# Altium footprint library EMBED_FOOT.PcbLib: 12 footprints
Each footprint in its own frame and in the unit in brackets; x right, y up, seen from the top. Pads: shape width x height; smd on the part's side, far side on the other; paste and mask are expansions set on the pad; w line width, h text height; cw(c..) or ccw(c..) is an arc to the next point about the centre after c.
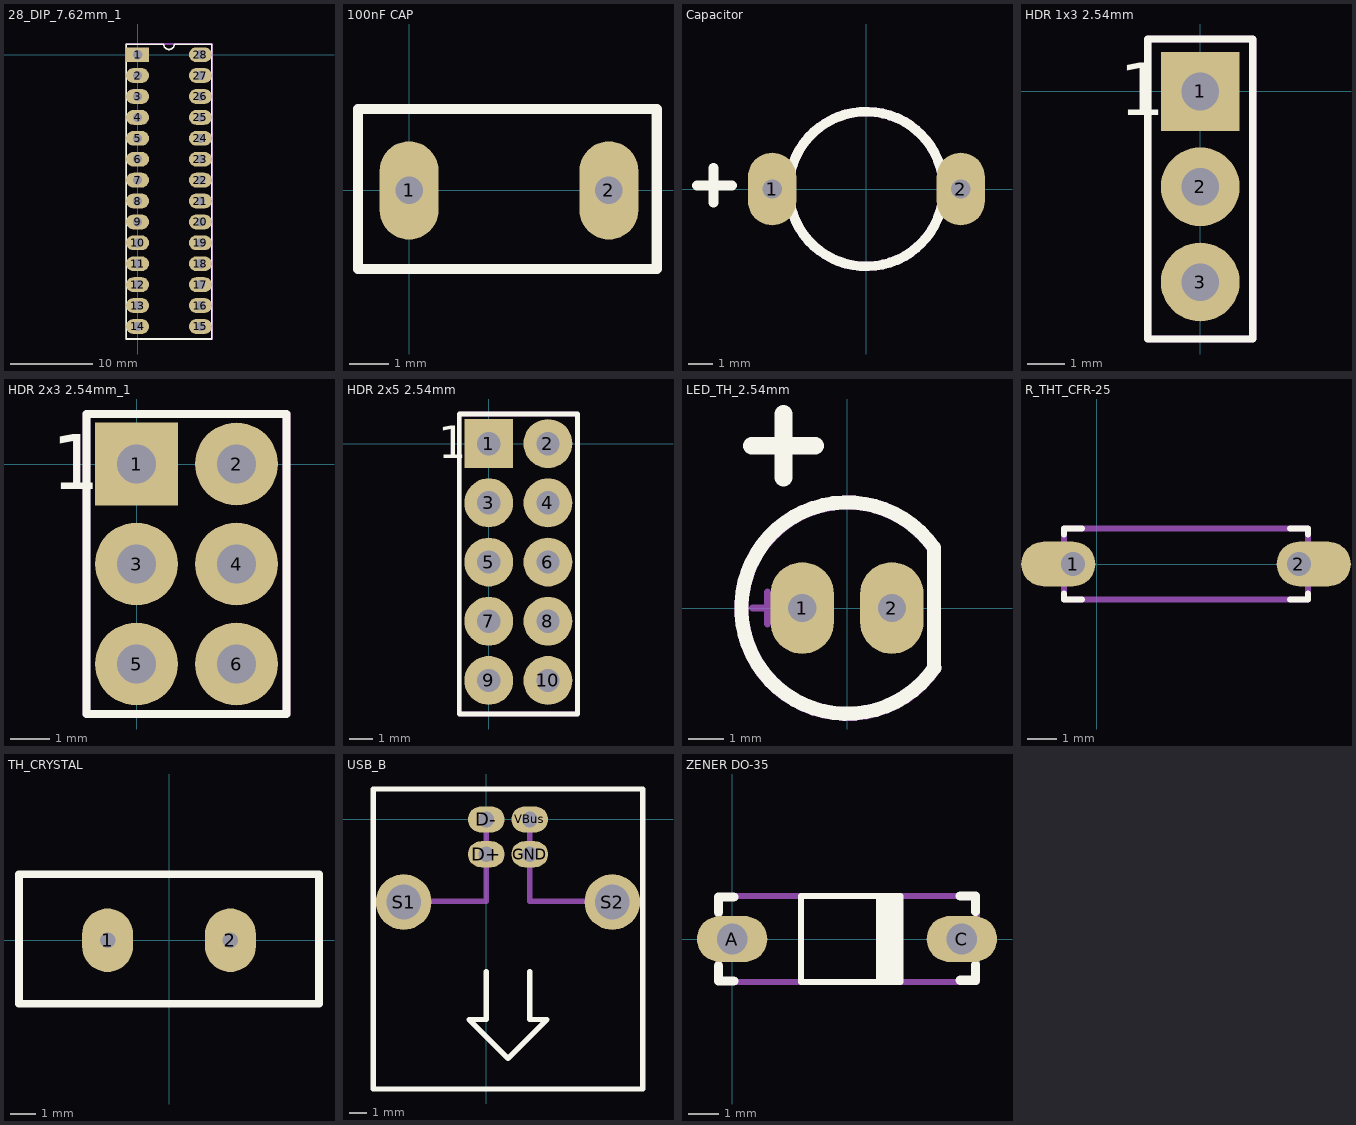
[diagram p0: the footprints below, top view; thin cyan lines are the x and y axes]

## 28_DIP_7.62mm_1 [mm]
pads (28):
  rect 2.8x1.8 hole 1.1: 1(0.01,-0.01)
  oval 2.8x1.8 hole 1.1: 2(0,-2.54) 3(0,-5.08) 4(0,-7.62) 5(0,-10.16) 6(0,-12.7) 7(0,-15.24) 8(0,-17.78) 9(0,-20.32) 10(0,-22.86) 11(0,-25.4) 12(0,-27.94) 13(0,-30.48) 14(0,-33.02) 15(7.62,-33.02) 16(7.62,-30.48) 17(7.62,-27.94) 18(7.62,-25.4) 19(7.62,-22.86) 20(7.62,-20.32) 21(7.62,-17.78) 22(7.62,-15.24) 23(7.62,-12.7) 24(7.62,-10.16) 25(7.62,-7.62) 26(7.62,-5.08) 27(7.62,-2.54) 28(7.62,0)
Top Overlay:
  lines w0.2: -1.39,-34.544 -1.39,1.27 3.175,1.27 ccw(c3.81,1.27) 4.445,1.27 9.01,1.27 9.01,-34.544 -1.39,-34.544
Mechanical 2:
  circle w0.5: c0.01,-0.01 r0.273
  lines w0.254: -1.39,-34.544 9.01,-34.544 9.01,1.29 -1.39,1.29 -1.39,-34.544
  text ".Designator" at 4,-16.325 h3
3D body "User Library-28 pin dip-1.step": height 7.55, standoff 1.33, extent 0,-34.941 7.874,1

## 100nF CAP [mm]
pads (2):
  oval 1.5x2.5 hole 0.7: 1(0,0) 2(5.08,0)
Top Overlay:
  lines w0.254: -1.3,-2 6.3,-2 6.3,2.075 -1.3,2.075 -1.3,-2
Mechanical 2:
  lines w0.254: -1.3,-2 6.275,-2 6.275,2.075 -1.3,2.075 -1.3,-2
  text ".Designator" at -0.5,-0.7 h2
3D body "c330c104j2h5ta91707301.stp": height 10.44, standoff -16.25, extent -1.03,-2.025 6.08,2.05

## Capacitor [mm]
pads (2):
  oval 2x3 hole 0.8: 1(-3.9,0) 2(3.9,0)
Top Overlay:
  circle w0.4: c-0.013,0 r3.2
  lines w0.4: -7.009,0.148 -5.561,0.148 ; -6.323,-0.564 -6.323,0.884
Mechanical 2:
  circle w0.4: c-0.013,0 r3.2
  text ".Designator" at -3.238,-0.838 h3.5
3D body: height 11, standoff 0, extent -3.2,-3.197 3.2,3.197

## HDR 1x3 2.54mm [mm]
pads (3):
  rect 2.1x2.1 hole 1: 1(0,0)
  round 2.1 hole 1: 2(0,-2.54) 3(0,-5.08)
Top Overlay:
  lines w0.2: -1.4,-6.6 1.4,-6.6 1.4,1.4 -1.4,1.4 -1.4,-6.6
  text "1" at -2.159,-0.635 h1.4
Mechanical 2:
  circle w0.5: c-0.508,0.508 r0.18
  lines w0.2: -1.4,-6.6 1.4,-6.6 1.4,1.4 -1.4,1.4 -1.4,-6.6
  text ".Designator" at 0.5,-5.7 h1
3D body "TSW-103-07-F-S.stp": height 8.39, standoff -2.53, extent -1.27,-6.477 1.27,1.27

## HDR 2x3 2.54mm_1 [mm]
pads (6):
  rect 2.1x2.1 hole 1: 1(0,0)
  round 2.1 hole 1: 2(2.54,0) 3(0,-2.54) 4(2.54,-2.54) 5(0,-5.08) 6(2.54,-5.08)
Top Overlay:
  lines w0.2: -1.27,-6.35 3.81,-6.35 3.81,1.27 -1.27,1.27 -1.27,-6.35
  text "1" at -2.159,-0.635 h1.4
Mechanical 2:
  circle w0.5: c-0.508,0.508 r0.18
  lines w0.2: -1.27,-6.35 3.81,-6.35 3.81,1.27 -1.27,1.27 -1.27,-6.35
  text ".Designator" at 1.778,-3.81 h1
3D body "TSW-102-23-T-T.stp": height 8.39, standoff -2.91, extent -1.27,-6.35 3.81,1.27

## HDR 2x5 2.54mm [mm]
pads (10):
  rect 2.1x2.1 hole 1: 1(0,0)
  round 2.1 hole 1: 2(2.54,0) 3(0,-2.54) 4(2.54,-2.54) 5(0,-5.08) 6(2.54,-5.08) 7(0,-7.62) 8(2.54,-7.62) 9(0,-10.16) 10(2.54,-10.16)
Top Overlay:
  lines w0.2: -1.27,-11.6 -1.27,1.27 3.81,1.27 3.81,-11.6 -1.27,-11.6
  text "1" at -2.159,-0.635 h1.4
Mechanical 2:
  circle w0.5: c-0.508,0.508 r0.18
  lines w0.2: -1.27,-11.6 -1.27,1.27 3.81,1.27 3.81,-11.6 -1.27,-11.6
  text ".Designator" at 1.778,-3.81 h1
3D body "TSW-102-23-T-T.stp": height 8.39, standoff -2.91, extent -1.27,-6.35 3.81,1.27
3D body "TSW-102-23-T-T.stp": height 8.39, standoff -2.91, extent -1.27,-11.43 3.81,-3.81

## LED_TH_2.54mm [mm]
pads (2):
  oval 1.8x2.6 hole 0.8: 1(-1.27,0) 2(1.27,0)
Top Overlay:
  lines w0.2: 2.481,-1.667 2.481,1.687 ccw(c-0.004,0.006) 2.49,-1.661
  lines w0.4: 2.462,-1.678 2.462,1.708 ccw(c0,0) 2.474,-1.69
  lines w0.5: -2.7,4.6 -0.9,4.6 ; -1.8,3.7 -1.8,5.5
Mechanical 2:
  lines w0.2: -2.675,0 -1.825,0 ; -2.25,-0.45 -2.25,0.45 ; -2.25,0 -2.25,0.45 ; 2.485,1.681 ccw(c0,0) 2.494,-1.667 ; -2.25,0.45 -2.25,0.45
  lines w0.4: 2.466,-1.684 2.466,1.702 ccw(c0.004,-0.006) 2.478,-1.696
  text ".Designator" at -1.6,-0.4 h1
3D body "User Library-LED-D5R.step": height 8.96, standoff -6.48, extent -3,-3 2.5,3

## PCBComponent_1 [mm]

## R_THT_CFR-25 [mm]
pads (2):
  oval 2.5x1.5 hole 0.8 copper offset -0.5,0: 1(-0.8,0)
  oval 2.5x1.5 hole 0.8 copper offset 0.5,0: 2(6.8,0)
Top Overlay:
  lines w0.2: -1.1,-1 -1.1,-1.2 -0.5,-1.2 ; -1.1,1 -1.1,1.2 -0.5,1.2 ; 6.5,-1.2 7.1,-1.2 7.1,-1 ; 6.5,1.2 7.1,1.2 7.1,1
Mechanical 2:
  lines w0.2: -1.1,-1.2 -1.1,1.2 7.1,1.2 7.1,-1.2 -1.1,-1.2
  text ".Designator" at 0.7,-0.4 h1
3D body: height 1.71, standoff -0.42, extent 4.1,-1.075 4.5,1.061
3D body "User Library-CFR-25 CFR50S (300mils)-2.STEP": height 1.9, standoff -3.38, extent -1.085,-1.2 7.085,1.2
3D body: height 1.71, standoff -0.42, extent 3.1,-1.075 3.5,1.061
3D body: height 1.71, standoff -0.42, extent 2.3,-1.075 2.7,1.061
3D body: height 1.71, standoff -0.42, extent 1.5,-1.075 1.9,1.061

## TH_CRYSTAL [mm]
pads (2):
  oval 2x2.5 hole 0.6: 1(-2.413,0) 2(2.413,0)
Top Overlay:
  lines w0.3: -5.9,-2.5 -5.9,2.4 -5.9,2.6 5.9,2.6 5.9,-2.5 -5.9,-2.5
Mechanical 2:
  text ".Designator" at -4.5,-0.7 h1.5
3D body "TH_Crystal_2pins.step": height 5.5, standoff -2, extent -5.675,-2.286 5.675,2.364

## USB_B [mm]
pads (6):
  oval 2.1x1.5 hole 0.9: D+(0,-2) D-(0,0) GND(2.5,-2) VBus(2.5,0)
  round 3.2 hole 2: S1(-4.75,-4.75) S2(7.25,-4.75)
Top Overlay:
  lines w0.3: 0,-8.75 0,-11.5 -1,-11.5 1.25,-13.75 3.5,-11.5 2.5,-11.5 2.5,-8.75 ; -6.5,-15.5 -6.5,1.5 -6.5,1.75 9,1.75 9,-15.5 -6.5,-15.5
Mechanical 2:
  lines w0.3: -4.77,-4.71 0,-4.71 0,-2 0,0 ; 2.5,-2 2.5,-4.71 ; 2.5,0 2.5,-4.71 ; 7.27,-4.71 2.5,-4.71
  text ".Designator" at -5.5,-9.25 h1.5
3D body "USB type-B female PCB.STEP": height 10.75, standoff -2.88, extent -6.2,-15.1 8.7,1.5

## ZENER DO-35 [mm]
pads (2):
  oval 2.3x1.5 hole 1: A(0,0) C(7.5,0)
Top Overlay:
  region: 5.5,1.4 5.5,-1.4 4.7,-1.4 4.7,1.4
  region: 4.3,1.4
  lines w0.2: 2.25,-1.4 2.25,1.4 5.5,1.4 5.5,-1.4 2.25,-1.4
  lines w0.3: -0.45,-0.875 -0.45,-1.375 0.05,-1.375 ; -0.45,0.875 -0.45,1.375 0.05,1.375 ; 7.45,-1.35 7.95,-1.35 7.95,-0.85 ; 7.45,1.4 7.95,1.4 7.95,0.9
Mechanical 2:
  lines w0.2: -0.45,-1.4 -0.45,1.4 8,1.4 8,-1.4 -0.45,-1.4
  text ".Designator" at 0.5,-0.8 h1.7
3D body "DO-35.step": height 2, standoff -3, extent -0.308,-1 7.808,1.008